# EAGLE library part SSW-103-XX-X-D (library samtec)
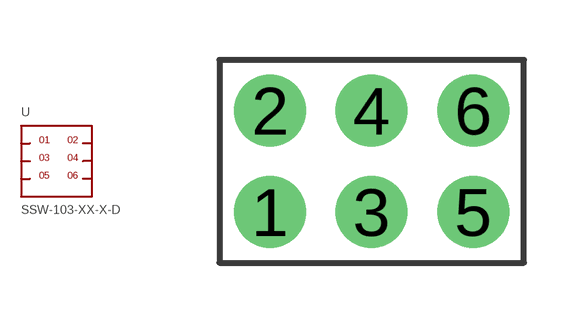
[diagram p10: symbol with the pads of SSW-103-XX-X-D; footprint SSW-103-XX-X-D]

Designator prefix -

## SSW-103-XX-X-D  [SSW-103-XX-X-D]
1  1
2  2
3  3
4  4
5  5
6  6

## Footprint SSW-103-XX-X-D (pad centres in mm)
drill 1.2: 1 -2.54,-1.27; 2 -2.54,1.27; 3 0,-1.27; 4 0,1.27; 5 2.54,-1.27; 6 2.54,1.27